# EAGLE library part 4PORT_ETHERNET (library strukt)
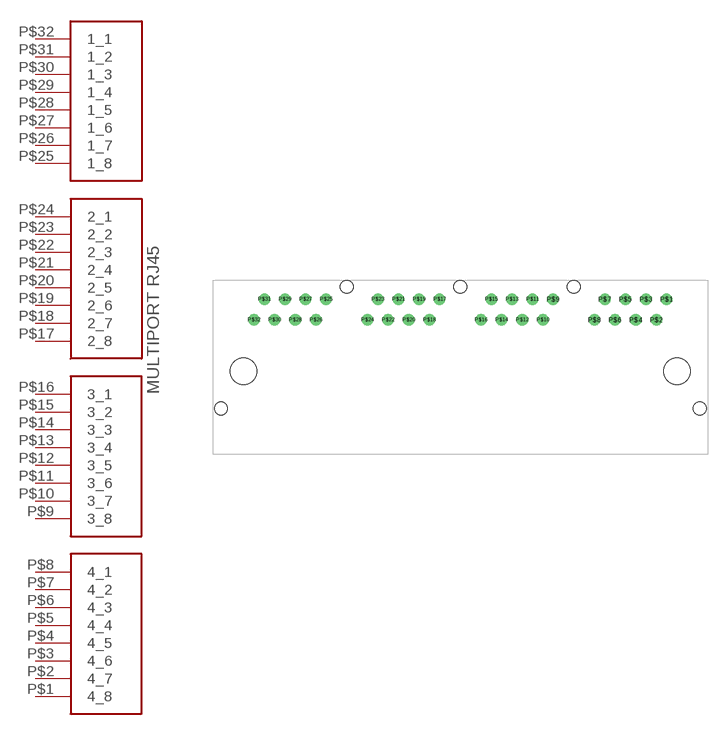
[diagram p0: symbol with the pads of 4PORT_ETHERNET; footprint 4PORT_ETHERNET]

Designator prefix -

## 4PORT_ETHERNET  [4PORT_ETHERNET]
P$1  4_8
P$2  4_7
P$3  4_6
P$4  4_5
P$5  4_4
P$6  4_3
P$7  4_2
P$8  4_1
P$9  3_8
P$10  3_7
P$11  3_6
P$12  3_5
P$13  3_4
P$14  3_3
P$15  3_2
P$16  3_1
P$17  2_8
P$18  2_7
P$19  2_6
P$20  2_5
P$21  2_4
P$22  2_3
P$23  2_2
P$24  2_1
P$25  1_8
P$26  1_7
P$27  1_6
P$28  1_5
P$29  1_4
P$30  1_3
P$31  1_2
P$32  1_1

## Footprint 4PORT_ETHERNET (pad centres in mm)
drill 0.9 pad 1.422 round: P$1 25.4,8.89; P$2 24.13,6.35; P$3 22.86,8.89; P$4 21.59,6.35; P$5 20.32,8.89; P$6 19.05,6.35; P$7 17.78,8.89; P$8 16.51,6.35; P$9 11.43,8.89; P$10 10.16,6.35; P$11 8.89,8.89; P$12 7.62,6.35; P$13 6.35,8.89; P$14 5.08,6.35; P$15 3.81,8.89; P$16 2.54,6.35; P$17 -2.54,8.89; P$18 -3.81,6.35; P$19 -5.08,8.89; P$20 -6.35,6.35; P$21 -7.62,8.89; P$22 -8.89,6.35; P$23 -10.16,8.89; P$24 -11.43,6.35; P$25 -16.51,8.89; P$26 -17.78,6.35; P$27 -19.05,8.89; P$28 -20.32,6.35; P$29 -21.59,8.89; P$30 -22.86,6.35; P$31 -24.13,8.89; P$32 -25.4,6.35
hole 3.25 at -26.67,0
hole 3.25 at 26.67,0
hole 1.57 at -13.97,10.41
hole 1.57 at 0,10.41
hole 1.57 at 13.97,10.41
hole 1.57 at -29.46,-4.57
hole 1.57 at 29.46,-4.57